# Altium footprint library PcbLib1.PcbLib: 1 footprints
Each footprint in its own frame and in the unit in brackets; x right, y up, seen from the top. Pads: shape width x height; smd on the part's side, far side on the other; paste and mask are expansions set on the pad; w line width, h text height; cw(c..) or ccw(c..) is an arc to the next point about the centre after c.
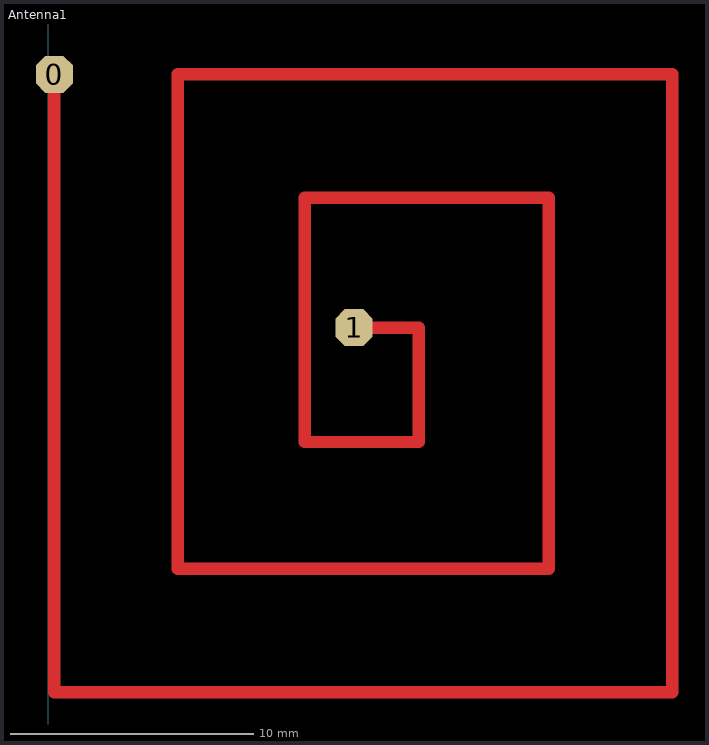
[diagram p0: the footprint, top view; thin cyan lines are the x and y axes]

## Antenna1 [mil]
pads (2):
  oct 60x60 smd: 0(10,1600) 1(495,1190)
Top Layer:
  lines w20: 10,1600 10,600 1010,600 1010,1600 210,1600 210,800 810,800 810,1400 415,1400 415,1005 600,1005 600,1190 495,1190